# Altium footprint library QFN_Sq_65P_Side_N.PcbLib: 53 footprints (part 1 of 4)
Each footprint in its own frame and in the unit in brackets; x right, y up, seen from the top. Pads: shape width x height; smd on the part's side, far side on the other; paste and mask are expansions set on the pad; w line width, h text height; cw(c..) or ccw(c..) is an arc to the next point about the centre after c.
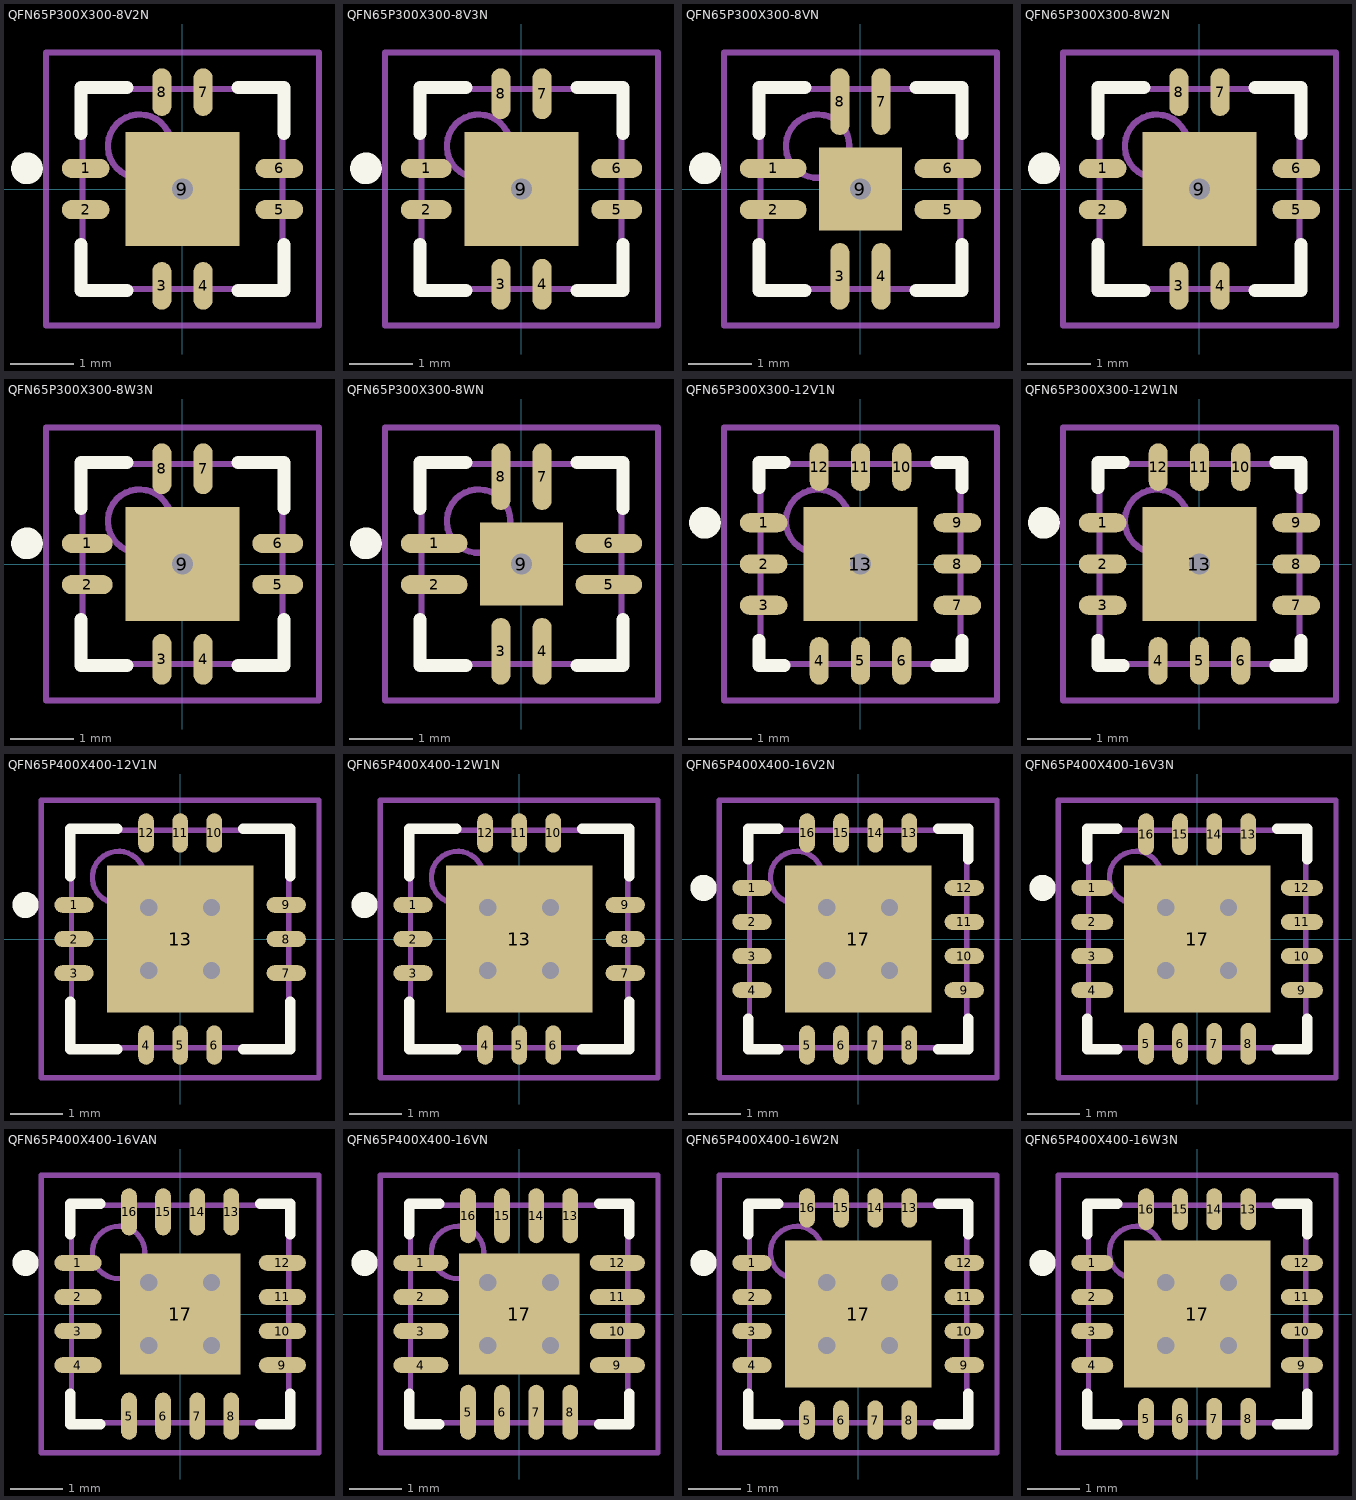
[diagram p0: the footprints below, top view; thin cyan lines are the x and y axes]

## QFN65P300X300-8V2N [mm] "QFN, 8-Leads, Body 3x3 mm, Pitch 0.65mm, IPC Medium Density"
height 1
pads (9):
  oval 0.75x0.3 smd: 1(-1.525,0.325) 2(-1.525,-0.325) 5(1.525,-0.325) 6(1.525,0.325)
  oval 0.3x0.75 smd: 3(-0.325,-1.525) 4(0.325,-1.525) 7(0.325,1.525) 8(-0.325,1.525)
  rect 1.8x1.8 smd: 9(0,0)
via 0,0 diameter 0.66 hole 0.33
Top Overlay:
  circle w0.25: c-2.45,0.325 r0.125
  lines w0.2: -1.6,-0.875 -1.6,-1.6 -0.875,-1.6 ; -1.6,0.875 -1.6,1.6 -0.875,1.6 ; 0.875,-1.6 1.6,-1.6 1.6,-0.875 ; 0.875,1.6 1.6,1.6 1.6,0.875
Mechanical 13:
  circle w0.1: c-0.675,0.675 r0.5
  lines w0.1: -1.575,-1.575 -1.575,1.575 1.575,1.575 1.575,-1.575 -1.575,-1.575
Mechanical 15:
  lines w0.1: -0.5,0 0.5,0 ; 0,-0.5 0,0.5 ; -2.15,-2.15 -2.15,2.15 2.15,2.15 2.15,-2.15 -2.15,-2.15
3D body: height 1, standoff 0, extent -1.575,-1.575 1.575,1.575

## QFN65P300X300-8V3N [mm] "QFN, 8-Leads, Body 3x3 mm, Pitch 0.65mm, IPC Medium Density"
height 1
pads (9):
  oval 0.8x0.3 smd: 1(-1.5,0.325) 2(-1.5,-0.325) 5(1.5,-0.325) 6(1.5,0.325)
  oval 0.3x0.8 smd: 3(-0.325,-1.5) 4(0.325,-1.5) 7(0.325,1.5) 8(-0.325,1.5)
  rect 1.8x1.8 smd: 9(0,0)
via 0,0 diameter 0.66 hole 0.33
Top Overlay:
  circle w0.25: c-2.45,0.325 r0.125
  lines w0.2: -1.6,-0.875 -1.6,-1.6 -0.875,-1.6 ; -1.6,0.875 -1.6,1.6 -0.875,1.6 ; 0.875,-1.6 1.6,-1.6 1.6,-0.875 ; 0.875,1.6 1.6,1.6 1.6,0.875
Mechanical 13:
  circle w0.1: c-0.675,0.675 r0.5
  lines w0.1: -1.575,-1.575 1.575,-1.575 1.575,1.575 -1.575,1.575 -1.575,-1.575
Mechanical 15:
  lines w0.1: -0.5,0 0.5,0 ; 0,-0.5 0,0.5 ; -2.15,-2.15 2.15,-2.15 2.15,2.15 -2.15,2.15 -2.15,-2.15
3D body: height 1, standoff 0, extent -1.575,-1.575 1.575,1.575

## QFN65P300X300-8VN [mm] "QFN, 8-Leads, Body 3x3 mm, Pitch 0.65mm, IPC Medium Density"
height 1
pads (9):
  oval 1.05x0.3 smd: 1(-1.375,0.325) 2(-1.375,-0.325) 5(1.375,-0.325) 6(1.375,0.325)
  oval 0.3x1.05 smd: 3(-0.325,-1.375) 4(0.325,-1.375) 7(0.325,1.375) 8(-0.325,1.375)
  rect 1.3x1.3 smd: 9(0,0)
via 0,0 diameter 0.66 hole 0.33
Top Overlay:
  circle w0.25: c-2.45,0.325 r0.125
  lines w0.2: -1.6,-0.875 -1.6,-1.6 -0.875,-1.6 ; -1.6,0.875 -1.6,1.6 -0.875,1.6 ; 0.875,-1.6 1.6,-1.6 1.6,-0.875 ; 0.875,1.6 1.6,1.6 1.6,0.875
Mechanical 13:
  circle w0.1: c-0.675,0.675 r0.5
  lines w0.1: -1.575,-1.575 1.575,-1.575 1.575,1.575 -1.575,1.575 -1.575,-1.575
Mechanical 15:
  lines w0.1: -0.5,0 0.5,0 ; 0,-0.5 0,0.5 ; -2.15,-2.15 2.15,-2.15 2.15,2.15 -2.15,2.15 -2.15,-2.15
3D body: height 1, standoff 0, extent -1.575,-1.575 1.575,1.575

## QFN65P300X300-8W2N [mm] "QFN, 8-Leads, Body 3x3 mm, Pitch 0.65mm, IPC Medium Density"
height 0.8
pads (9):
  oval 0.75x0.3 smd: 1(-1.525,0.325) 2(-1.525,-0.325) 5(1.525,-0.325) 6(1.525,0.325)
  oval 0.3x0.75 smd: 3(-0.325,-1.525) 4(0.325,-1.525) 7(0.325,1.525) 8(-0.325,1.525)
  rect 1.8x1.8 smd: 9(0,0)
via 0,0 diameter 0.66 hole 0.33
Top Overlay:
  circle w0.25: c-2.45,0.325 r0.125
  lines w0.2: -1.6,-0.875 -1.6,-1.6 -0.875,-1.6 ; -1.6,0.875 -1.6,1.6 -0.875,1.6 ; 0.875,-1.6 1.6,-1.6 1.6,-0.875 ; 0.875,1.6 1.6,1.6 1.6,0.875
Mechanical 13:
  circle w0.1: c-0.675,0.675 r0.5
  lines w0.1: -1.575,-1.575 1.575,-1.575 1.575,1.575 -1.575,1.575 -1.575,-1.575
Mechanical 15:
  lines w0.1: -0.5,0 0.5,0 ; 0,-0.5 0,0.5 ; -2.15,-2.15 2.15,-2.15 2.15,2.15 -2.15,2.15 -2.15,-2.15
3D body: height 0.8, standoff 0, extent -1.575,-1.575 1.575,1.575

## QFN65P300X300-8W3N [mm] "QFN, 8-Leads, Body 3x3 mm, Pitch 0.65mm, IPC Medium Density"
height 0.8
pads (9):
  oval 0.8x0.3 smd: 1(-1.5,0.325) 2(-1.5,-0.325) 5(1.5,-0.325) 6(1.5,0.325)
  oval 0.3x0.8 smd: 3(-0.325,-1.5) 4(0.325,-1.5) 7(0.325,1.5) 8(-0.325,1.5)
  rect 1.8x1.8 smd: 9(0,0)
via 0,0 diameter 0.66 hole 0.33
Top Overlay:
  circle w0.25: c-2.45,0.325 r0.125
  lines w0.2: -1.6,-0.875 -1.6,-1.6 -0.875,-1.6 ; -1.6,0.875 -1.6,1.6 -0.875,1.6 ; 0.875,-1.6 1.6,-1.6 1.6,-0.875 ; 0.875,1.6 1.6,1.6 1.6,0.875
Mechanical 13:
  circle w0.1: c-0.675,0.675 r0.5
  lines w0.1: -1.575,-1.575 1.575,-1.575 1.575,1.575 -1.575,1.575 -1.575,-1.575
Mechanical 15:
  lines w0.1: -0.5,0 0.5,0 ; 0,-0.5 0,0.5 ; -2.15,-2.15 2.15,-2.15 2.15,2.15 -2.15,2.15 -2.15,-2.15
3D body: height 0.8, standoff 0, extent -1.575,-1.575 1.575,1.575

## QFN65P300X300-8WN [mm] "QFN, 8-Leads, Body 3x3 mm, Pitch 0.65mm, IPC Medium Density"
height 0.8
pads (9):
  oval 1.05x0.3 smd: 1(-1.375,0.325) 2(-1.375,-0.325) 5(1.375,-0.325) 6(1.375,0.325)
  oval 0.3x1.05 smd: 3(-0.325,-1.375) 4(0.325,-1.375) 7(0.325,1.375) 8(-0.325,1.375)
  rect 1.3x1.3 smd: 9(0,0)
via 0,0 diameter 0.66 hole 0.33
Top Overlay:
  circle w0.25: c-2.45,0.325 r0.125
  lines w0.2: -1.6,-0.875 -1.6,-1.6 -0.875,-1.6 ; -1.6,0.875 -1.6,1.6 -0.875,1.6 ; 0.875,-1.6 1.6,-1.6 1.6,-0.875 ; 0.875,1.6 1.6,1.6 1.6,0.875
Mechanical 13:
  circle w0.1: c-0.675,0.675 r0.5
  lines w0.1: -1.575,-1.575 1.575,-1.575 1.575,1.575 -1.575,1.575 -1.575,-1.575
Mechanical 15:
  lines w0.1: -0.5,0 0.5,0 ; 0,-0.5 0,0.5 ; -2.15,-2.15 2.15,-2.15 2.15,2.15 -2.15,2.15 -2.15,-2.15
3D body: height 0.8, standoff 0, extent -1.575,-1.575 1.575,1.575

## QFN65P300X300-12V1N [mm] "QFN, 12-Leads, Body 3x3 mm, Pitch 0.65mm, IPC Medium Density"
height 1
pads (13):
  oval 0.75x0.3 smd: 1(-1.525,0.65) 2(-1.525,0) 3(-1.525,-0.65) 7(1.525,-0.65) 8(1.525,0) 9(1.525,0.65)
  oval 0.3x0.75 smd: 4(-0.65,-1.525) 5(0,-1.525) 6(0.65,-1.525) 10(0.65,1.525) 11(0,1.525) 12(-0.65,1.525)
  rect 1.8x1.8 smd: 13(0,0)
via 0,0 diameter 0.66 hole 0.33
Top Overlay:
  circle w0.25: c-2.45,0.65 r0.125
  lines w0.2: -1.6,-1.2 -1.6,-1.6 -1.2,-1.6 ; -1.6,1.2 -1.6,1.6 -1.2,1.6 ; 1.2,-1.6 1.6,-1.6 1.6,-1.2 ; 1.2,1.6 1.6,1.6 1.6,1.2
Mechanical 13:
  circle w0.1: c-0.675,0.675 r0.5
  lines w0.1: -1.575,-1.575 1.575,-1.575 1.575,1.575 -1.575,1.575 -1.575,-1.575
Mechanical 15:
  lines w0.1: -0.5,0 0.5,0 ; 0,-0.5 0,0.5 ; -2.15,-2.15 2.15,-2.15 2.15,2.15 -2.15,2.15 -2.15,-2.15
3D body: height 1, standoff 0, extent -1.575,-1.575 1.575,1.575

## QFN65P300X300-12W1N [mm] "QFN, 12-Leads, Body 3x3 mm, Pitch 0.65mm, IPC Medium Density"
height 0.8
pads (13):
  oval 0.75x0.3 smd: 1(-1.525,0.65) 2(-1.525,0) 3(-1.525,-0.65) 7(1.525,-0.65) 8(1.525,0) 9(1.525,0.65)
  oval 0.3x0.75 smd: 4(-0.65,-1.525) 5(0,-1.525) 6(0.65,-1.525) 10(0.65,1.525) 11(0,1.525) 12(-0.65,1.525)
  rect 1.8x1.8 smd: 13(0,0)
via 0,0 diameter 0.66 hole 0.33
Top Overlay:
  circle w0.25: c-2.45,0.65 r0.125
  lines w0.2: -1.6,-1.2 -1.6,-1.6 -1.2,-1.6 ; -1.6,1.2 -1.6,1.6 -1.2,1.6 ; 1.2,-1.6 1.6,-1.6 1.6,-1.2 ; 1.2,1.6 1.6,1.6 1.6,1.2
Mechanical 13:
  circle w0.1: c-0.675,0.675 r0.5
  lines w0.1: -1.575,-1.575 1.575,-1.575 1.575,1.575 -1.575,1.575 -1.575,-1.575
Mechanical 15:
  lines w0.1: -0.5,0 0.5,0 ; 0,-0.5 0,0.5 ; -2.15,-2.15 2.15,-2.15 2.15,2.15 -2.15,2.15 -2.15,-2.15
3D body: height 0.8, standoff 0, extent -1.575,-1.575 1.575,1.575

## QFN65P400X400-12V1N [mm] "QFN, 12-Leads, Body 4x4 mm, Pitch 0.65mm, IPC Medium Density"
height 1
pads (13):
  oval 0.75x0.3 smd: 1(-2.025,0.65) 2(-2.025,0) 3(-2.025,-0.65) 7(2.025,-0.65) 8(2.025,0) 9(2.025,0.65)
  oval 0.3x0.75 smd: 4(-0.65,-2.025) 5(0,-2.025) 6(0.65,-2.025) 10(0.65,2.025) 11(0,2.025) 12(-0.65,2.025)
  rect 2.8x2.8 smd: 13(0,0)
via 0.6,-0.6 diameter 0.66 hole 0.33
via -0.6,-0.6 diameter 0.66 hole 0.33
via 0.6,0.6 diameter 0.66 hole 0.33
via -0.6,0.6 diameter 0.66 hole 0.33
Top Overlay:
  circle w0.25: c-2.95,0.65 r0.125
  lines w0.2: -2.1,-1.2 -2.1,-2.1 -1.2,-2.1 ; -2.1,1.2 -2.1,2.1 -1.2,2.1 ; 1.2,-2.1 2.1,-2.1 2.1,-1.2 ; 1.2,2.1 2.1,2.1 2.1,1.2
Mechanical 13:
  circle w0.1: c-1.175,1.175 r0.5
  lines w0.1: -2.075,-2.075 2.075,-2.075 2.075,2.075 -2.075,2.075 -2.075,-2.075
Mechanical 15:
  lines w0.1: -0.5,0 0.5,0 ; 0,-0.5 0,0.5 ; -2.65,-2.65 2.65,-2.65 2.65,2.65 -2.65,2.65 -2.65,-2.65
3D body: height 1, standoff 0, extent -2.075,-2.075 2.075,2.075

## QFN65P400X400-12W1N [mm] "QFN, 12-Leads, Body 4x4 mm, Pitch 0.65mm, IPC Medium Density"
height 0.8
pads (13):
  oval 0.75x0.3 smd: 1(-2.025,0.65) 2(-2.025,0) 3(-2.025,-0.65) 7(2.025,-0.65) 8(2.025,0) 9(2.025,0.65)
  oval 0.3x0.75 smd: 4(-0.65,-2.025) 5(0,-2.025) 6(0.65,-2.025) 10(0.65,2.025) 11(0,2.025) 12(-0.65,2.025)
  rect 2.8x2.8 smd: 13(0,0)
via 0.6,-0.6 diameter 0.66 hole 0.33
via -0.6,-0.6 diameter 0.66 hole 0.33
via 0.6,0.6 diameter 0.66 hole 0.33
via -0.6,0.6 diameter 0.66 hole 0.33
Top Overlay:
  circle w0.25: c-2.95,0.65 r0.125
  lines w0.2: -2.1,-1.2 -2.1,-2.1 -1.2,-2.1 ; -2.1,1.2 -2.1,2.1 -1.2,2.1 ; 1.2,-2.1 2.1,-2.1 2.1,-1.2 ; 1.2,2.1 2.1,2.1 2.1,1.2
Mechanical 13:
  circle w0.1: c-1.175,1.175 r0.5
  lines w0.1: -2.075,-2.075 2.075,-2.075 2.075,2.075 -2.075,2.075 -2.075,-2.075
Mechanical 15:
  lines w0.1: -0.5,0 0.5,0 ; 0,-0.5 0,0.5 ; -2.65,-2.65 2.65,-2.65 2.65,2.65 -2.65,2.65 -2.65,-2.65
3D body: height 0.8, standoff 0, extent -2.075,-2.075 2.075,2.075

## QFN65P400X400-16V2N [mm] "QFN, 16-Leads, Body 4x4 mm, Pitch 0.65mm, IPC Medium Density"
height 1
pads (17):
  oval 0.75x0.3 smd: 1(-2.025,0.975) 2(-2.025,0.325) 3(-2.025,-0.325) 4(-2.025,-0.975) 9(2.025,-0.975) 10(2.025,-0.325) 11(2.025,0.325) 12(2.025,0.975)
  oval 0.3x0.75 smd: 5(-0.975,-2.025) 6(-0.325,-2.025) 7(0.325,-2.025) 8(0.975,-2.025) 13(0.975,2.025) 14(0.325,2.025) 15(-0.325,2.025) 16(-0.975,2.025)
  rect 2.8x2.8 smd: 17(0,0)
via 0.6,-0.6 diameter 0.66 hole 0.33
via -0.6,-0.6 diameter 0.66 hole 0.33
via 0.6,0.6 diameter 0.66 hole 0.33
via -0.6,0.6 diameter 0.66 hole 0.33
Top Overlay:
  circle w0.25: c-2.95,0.975 r0.125
  lines w0.2: -2.1,-1.525 -2.1,-2.1 -1.525,-2.1 ; -2.1,1.525 -2.1,2.1 -1.525,2.1 ; 1.525,-2.1 2.1,-2.1 2.1,-1.525 ; 1.525,2.1 2.1,2.1 2.1,1.525
Mechanical 13:
  circle w0.1: c-1.175,1.175 r0.5
  lines w0.1: -2.075,-2.075 2.075,-2.075 2.075,2.075 -2.075,2.075 -2.075,-2.075
Mechanical 15:
  lines w0.1: -0.5,0 0.5,0 ; 0,-0.5 0,0.5 ; -2.65,-2.65 2.65,-2.65 2.65,2.65 -2.65,2.65 -2.65,-2.65
3D body: height 1, standoff 0, extent -2.075,-2.075 2.075,2.075

## QFN65P400X400-16V3N [mm] "QFN, 16-Leads, Body 4x4 mm, Pitch 0.65mm, IPC Medium Density"
height 1
pads (17):
  oval 0.8x0.3 smd: 1(-2,0.975) 2(-2,0.325) 3(-2,-0.325) 4(-2,-0.975) 9(2,-0.975) 10(2,-0.325) 11(2,0.325) 12(2,0.975)
  oval 0.3x0.8 smd: 5(-0.975,-2) 6(-0.325,-2) 7(0.325,-2) 8(0.975,-2) 13(0.975,2) 14(0.325,2) 15(-0.325,2) 16(-0.975,2)
  rect 2.8x2.8 smd: 17(0,0)
via 0.6,-0.6 diameter 0.66 hole 0.33
via -0.6,-0.6 diameter 0.66 hole 0.33
via 0.6,0.6 diameter 0.66 hole 0.33
via -0.6,0.6 diameter 0.66 hole 0.33
Top Overlay:
  circle w0.25: c-2.95,0.975 r0.125
  lines w0.2: -2.1,-1.525 -2.1,-2.1 -1.525,-2.1 ; -2.1,1.525 -2.1,2.1 -1.525,2.1 ; 1.525,-2.1 2.1,-2.1 2.1,-1.525 ; 1.525,2.1 2.1,2.1 2.1,1.525
Mechanical 13:
  circle w0.1: c-1.175,1.175 r0.5
  lines w0.1: -2.075,-2.075 2.075,-2.075 2.075,2.075 -2.075,2.075 -2.075,-2.075
Mechanical 15:
  lines w0.1: -0.5,0 0.5,0 ; 0,-0.5 0,0.5 ; -2.65,-2.65 2.65,-2.65 2.65,2.65 -2.65,2.65 -2.65,-2.65
3D body: height 1, standoff 0, extent -2.075,-2.075 2.075,2.075

## QFN65P400X400-16VAN [mm] "16-Pin Plastic Quad Flat No-Lead 0.65 mm Pitch"
height 1
pads (17):
  oval 0.9x0.3 smd: 1(-1.95,0.975) 2(-1.95,0.325) 3(-1.95,-0.325) 4(-1.95,-0.975) 9(1.95,-0.975) 10(1.95,-0.325) 11(1.95,0.325) 12(1.95,0.975)
  oval 0.3x0.9 smd: 5(-0.975,-1.95) 6(-0.325,-1.95) 7(0.325,-1.95) 8(0.975,-1.95) 13(0.975,1.95) 14(0.325,1.95) 15(-0.325,1.95) 16(-0.975,1.95)
  rect 2.3x2.3 smd: 17(0,0)
via -0.6,0.6 diameter 0.66 hole 0.33
via 0.6,0.6 diameter 0.66 hole 0.33
via -0.6,-0.6 diameter 0.66 hole 0.33
via 0.6,-0.6 diameter 0.66 hole 0.33
Top Overlay:
  circle w0.25: c-2.95,0.975 r0.125
  lines w0.2: -2.1,-1.525 -2.1,-2.1 -1.525,-2.1 ; -2.1,1.525 -2.1,2.1 -1.525,2.1 ; 1.525,-2.1 2.1,-2.1 2.1,-1.525 ; 1.525,2.1 2.1,2.1 2.1,1.525
Mechanical 13:
  circle w0.1: c-1.175,1.175 r0.5
  lines w0.1: -2.075,-2.075 -2.075,2.075 2.075,2.075 2.075,-2.075 -2.075,-2.075
Mechanical 15:
  lines w0.1: -0.5,0 0.5,0 ; 0,-0.5 0,0.5 ; -2.65,-2.65 -2.65,2.65 2.65,2.65 2.65,-2.65 -2.65,-2.65
3D body: height 1, standoff 0, extent -2.075,-2.075 2.075,2.075

## QFN65P400X400-16VN [mm] "QFN, 16-Leads, Body 4x4 mm, Pitch 0.65mm, IPC Medium Density"
height 1
pads (17):
  oval 1.05x0.3 smd: 1(-1.875,0.975) 2(-1.875,0.325) 3(-1.875,-0.325) 4(-1.875,-0.975) 9(1.875,-0.975) 10(1.875,-0.325) 11(1.875,0.325) 12(1.875,0.975)
  oval 0.3x1.05 smd: 5(-0.975,-1.875) 6(-0.325,-1.875) 7(0.325,-1.875) 8(0.975,-1.875) 13(0.975,1.875) 14(0.325,1.875) 15(-0.325,1.875) 16(-0.975,1.875)
  rect 2.3x2.3 smd: 17(0,0)
via 0.6,-0.6 diameter 0.66 hole 0.33
via -0.6,-0.6 diameter 0.66 hole 0.33
via 0.6,0.6 diameter 0.66 hole 0.33
via -0.6,0.6 diameter 0.66 hole 0.33
Top Overlay:
  circle w0.25: c-2.95,0.975 r0.125
  lines w0.2: -2.1,-1.525 -2.1,-2.1 -1.525,-2.1 ; -2.1,1.525 -2.1,2.1 -1.525,2.1 ; 1.525,-2.1 2.1,-2.1 2.1,-1.525 ; 1.525,2.1 2.1,2.1 2.1,1.525
Mechanical 13:
  circle w0.1: c-1.175,1.175 r0.5
  lines w0.1: -2.075,-2.075 2.075,-2.075 2.075,2.075 -2.075,2.075 -2.075,-2.075
Mechanical 15:
  lines w0.1: -0.5,0 0.5,0 ; 0,-0.5 0,0.5 ; -2.65,-2.65 2.65,-2.65 2.65,2.65 -2.65,2.65 -2.65,-2.65
3D body: height 1, standoff 0, extent -2.075,-2.075 2.075,2.075

## QFN65P400X400-16W2N [mm] "QFN, 16-Leads, Body 4x4 mm, Pitch 0.65mm, IPC Medium Density"
height 0.8
pads (17):
  oval 0.75x0.3 smd: 1(-2.025,0.975) 2(-2.025,0.325) 3(-2.025,-0.325) 4(-2.025,-0.975) 9(2.025,-0.975) 10(2.025,-0.325) 11(2.025,0.325) 12(2.025,0.975)
  oval 0.3x0.75 smd: 5(-0.975,-2.025) 6(-0.325,-2.025) 7(0.325,-2.025) 8(0.975,-2.025) 13(0.975,2.025) 14(0.325,2.025) 15(-0.325,2.025) 16(-0.975,2.025)
  rect 2.8x2.8 smd: 17(0,0)
via 0.6,-0.6 diameter 0.66 hole 0.33
via -0.6,-0.6 diameter 0.66 hole 0.33
via 0.6,0.6 diameter 0.66 hole 0.33
via -0.6,0.6 diameter 0.66 hole 0.33
Top Overlay:
  circle w0.25: c-2.95,0.975 r0.125
  lines w0.2: -2.1,-1.525 -2.1,-2.1 -1.525,-2.1 ; -2.1,1.525 -2.1,2.1 -1.525,2.1 ; 1.525,-2.1 2.1,-2.1 2.1,-1.525 ; 1.525,2.1 2.1,2.1 2.1,1.525
Mechanical 13:
  circle w0.1: c-1.175,1.175 r0.5
  lines w0.1: -2.075,-2.075 2.075,-2.075 2.075,2.075 -2.075,2.075 -2.075,-2.075
Mechanical 15:
  lines w0.1: -0.5,0 0.5,0 ; 0,-0.5 0,0.5 ; -2.65,-2.65 2.65,-2.65 2.65,2.65 -2.65,2.65 -2.65,-2.65
3D body: height 0.8, standoff 0, extent -2.075,-2.075 2.075,2.075

## QFN65P400X400-16W3N [mm] "QFN, 16-Leads, Body 4x4 mm, Pitch 0.65mm, IPC Medium Density"
height 0.8
pads (17):
  oval 0.8x0.3 smd: 1(-2,0.975) 2(-2,0.325) 3(-2,-0.325) 4(-2,-0.975) 9(2,-0.975) 10(2,-0.325) 11(2,0.325) 12(2,0.975)
  oval 0.3x0.8 smd: 5(-0.975,-2) 6(-0.325,-2) 7(0.325,-2) 8(0.975,-2) 13(0.975,2) 14(0.325,2) 15(-0.325,2) 16(-0.975,2)
  rect 2.8x2.8 smd: 17(0,0)
via 0.6,-0.6 diameter 0.66 hole 0.33
via -0.6,-0.6 diameter 0.66 hole 0.33
via 0.6,0.6 diameter 0.66 hole 0.33
via -0.6,0.6 diameter 0.66 hole 0.33
Top Overlay:
  circle w0.25: c-2.95,0.975 r0.125
  lines w0.2: -2.1,-1.525 -2.1,-2.1 -1.525,-2.1 ; -2.1,1.525 -2.1,2.1 -1.525,2.1 ; 1.525,-2.1 2.1,-2.1 2.1,-1.525 ; 1.525,2.1 2.1,2.1 2.1,1.525
Mechanical 13:
  circle w0.1: c-1.175,1.175 r0.5
  lines w0.1: -2.075,-2.075 2.075,-2.075 2.075,2.075 -2.075,2.075 -2.075,-2.075
Mechanical 15:
  lines w0.1: -0.5,0 0.5,0 ; 0,-0.5 0,0.5 ; -2.65,-2.65 2.65,-2.65 2.65,2.65 -2.65,2.65 -2.65,-2.65
3D body: height 0.8, standoff 0, extent -2.075,-2.075 2.075,2.075